# Altium footprint library PCB_Library_DaughterBoard.PcbLib: 4 footprints
Each footprint in its own frame and in the unit in brackets; x right, y up, seen from the top. Pads: shape width x height; smd on the part's side, far side on the other; paste and mask are expansions set on the pad; w line width, h text height; cw(c..) or ccw(c..) is an arc to the next point about the centre after c.
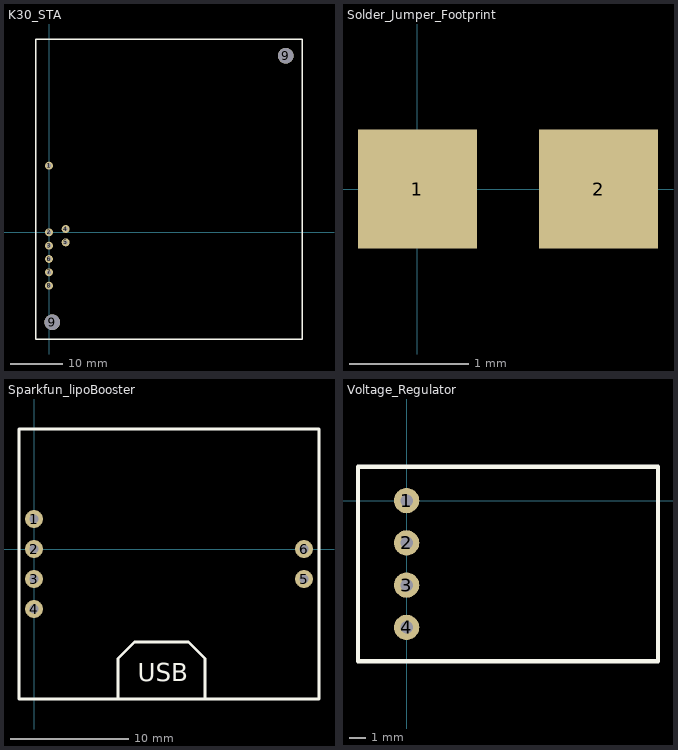
[diagram p0: the footprints below, top view; thin cyan lines are the x and y axes]

## K30_STA [mil]
height 492.13
pads (10):
  round 60 hole 30: 1(0,500) 2(0,0) 3(0,-100) 4(125.2,24.8) 5(125.2,-75.2) 6(0,-200) 7(0,-300) 8(0,-400)
  round 118.11 hole 118.11 unplated: 9(25,-674.8) 9(1774.8,1324.8)
Top Overlay:
  lines w10: -100,-800 1900,-800 1900,1450 -100,1450 -100,-800
3D body: height 570.87, standoff 78.74, extent -100,-800 1900,1450

## Solder_Jumper_Footprint [mm]
pads (2):
  rect 1x1 smd: 1(0,0) 2(1.524,0)

## Sparkfun_lipoBooster [mil]
pads (6):
  round 60 hole 30: 1(0,100) 2(0,0) 3(0,-100) 4(0,-200) 5(900,-100) 6(900,0)
Top Overlay:
  lines w10: 280,-500 280,-365 335,-310 515,-310 570,-365 570,-500 ; -50,-500 -50,400 950,400 950,-500 -50,-500
  text "USB" at 345,-440 h60

## Voltage_Regulator [mil]
pads (4):
  round 60 hole 30: 1(0,0) 2(0,-100) 3(0,-200) 4(0,-300)
Top Overlay:
  lines w10: -115,-380 595,-380 595,80 -115,80 -115,-380